# EAGLE library part RPI3 (library e14_Rpi3_RevA)
Device for Raspberry Pi 3 board created by Dave Young for www.element14.com More information and support community is available at https://www.element14.com/community/community/raspberry-pi
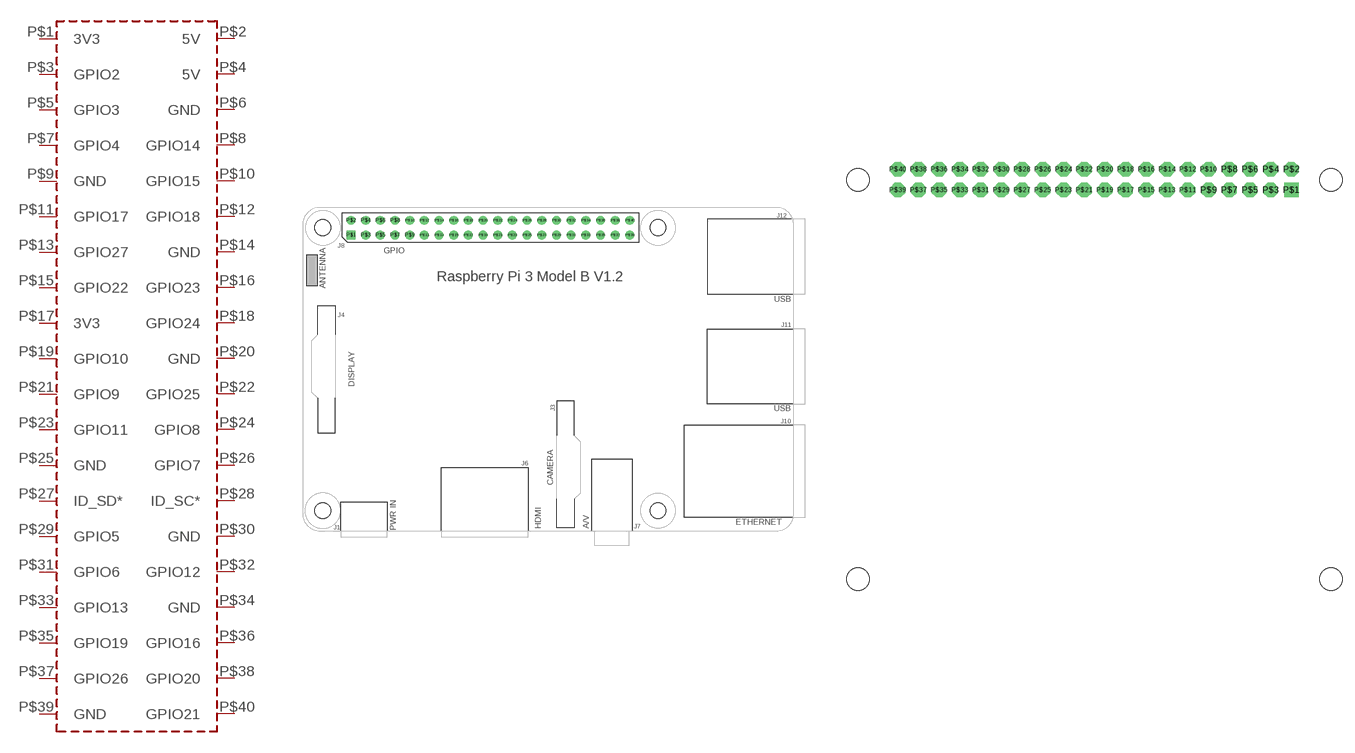
[diagram p0: symbol with the pads of RPI3; footprints RPI3, RPI3-NO-CONNECTORS]

Designator prefix PCB

## RPI3  [RPI3]
P$1  3V3
P$2  5V
P$3  GPIO2
P$4  5V
P$5  GPIO3
P$6  GND
P$7  GPIO4
P$8  GPIO14
P$9  GND
P$10  GPIO15
P$11  GPIO17
P$12  GPIO18
P$13  GPIO27
P$14  GND
P$15  GPIO22
P$16  GPIO23
P$17  3V3
P$18  GPIO24
P$19  GPIO10
P$20  GND
P$21  GPIO9
P$22  GPIO25
P$23  GPIO11
P$24  GPIO8
P$25  GND
P$26  GPIO7
P$27  ID_SD*
P$28  ID_SC*
P$29  GPIO5
P$30  GND
P$31  GPIO6
P$32  GPIO12
P$33  GPIO13
P$34  GND
P$35  GPIO19
P$36  GPIO16
P$37  GPIO26
P$38  GPIO20
P$39  GND
P$40  GPIO21

## RPI3NO-CONNECTORS  [RPI3-NO-CONNECTORS]
Pads as for RPI3

## Footprint RPI3 (pad centres in mm)
Package for the Raspberry Pi 3 board created by Dave Young for www.elemenet14.com based on documented dimensions and board measurements. For more documentation, please visit http://www.raspberrypi.org/documentation/hardware/raspberrypi/
drill 1.016 square: P$1 8.37,51.23
drill 1.016: P$2 8.357,53.772; P$3 10.897,51.232; P$4 10.897,53.772; P$5 13.437,51.232; P$6 13.437,53.772; P$7 15.977,51.232; P$8 15.977,53.772; P$9 18.517,51.232; P$10 18.517,53.772; P$11 21.057,51.232; P$12 21.057,53.772; P$13 23.597,51.232; P$14 23.597,53.772; P$15 26.137,51.232; P$16 26.137,53.772; P$17 28.677,51.232; P$18 28.677,53.772; P$19 31.217,51.232; P$20 31.217,53.772; P$21 33.757,51.232; P$22 33.757,53.772; P$23 36.297,51.232; P$24 36.297,53.772; P$25 38.837,51.232; P$26 38.837,53.772; P$27 41.377,51.232; P$28 41.377,53.772; P$29 43.917,51.232; P$30 43.917,53.772; P$31 46.457,51.232; P$32 46.457,53.772; P$33 48.997,51.232; P$34 48.997,53.772; P$35 51.537,51.232; P$36 51.537,53.772; P$37 54.077,51.232; P$38 54.077,53.772; P$39 56.617,51.232; P$40 56.617,53.772
hole 2.75 at 3.5,3.5
hole 2.75 at 61.5,3.5
hole 2.75 at 3.5,52.5
hole 2.75 at 61.5,52.5

## Footprint RPI3-NO-CONNECTORS (pad centres in mm)
drill 1.016 pad 1.778 square: P$1 -8.37,51.23
drill 1.016 pad 1.778 octagon: P$2 -8.357,53.772; P$3 -10.897,51.232; P$4 -10.897,53.772; P$5 -13.437,51.232; P$6 -13.437,53.772; P$7 -15.977,51.232; P$8 -15.977,53.772; P$9 -18.517,51.232; P$10 -18.517,53.772; P$11 -21.057,51.232; P$12 -21.057,53.772; P$13 -23.597,51.232; P$14 -23.597,53.772; P$15 -26.137,51.232; P$16 -26.137,53.772; P$17 -28.677,51.232; P$18 -28.677,53.772; P$19 -31.217,51.232; P$20 -31.217,53.772; P$21 -33.757,51.232; P$22 -33.757,53.772; P$23 -36.297,51.232; P$24 -36.297,53.772; P$25 -38.837,51.232; P$26 -38.837,53.772; P$27 -41.377,51.232; P$28 -41.377,53.772; P$29 -43.917,51.232; P$30 -43.917,53.772; P$31 -46.457,51.232; P$32 -46.457,53.772; P$33 -48.997,51.232; P$34 -48.997,53.772; P$35 -51.537,51.232; P$36 -51.537,53.772; P$37 -54.077,51.232; P$38 -54.077,53.772; P$39 -56.617,51.232; P$40 -56.617,53.772
hole 2.75 at -3.5,3.5
hole 2.75 at -61.5,3.5
hole 2.75 at -3.5,52.5
hole 2.75 at -61.5,52.5